# EAGLE library part MICROSD (library Ai_Connectors)
DM3AT-SF-PEJM5
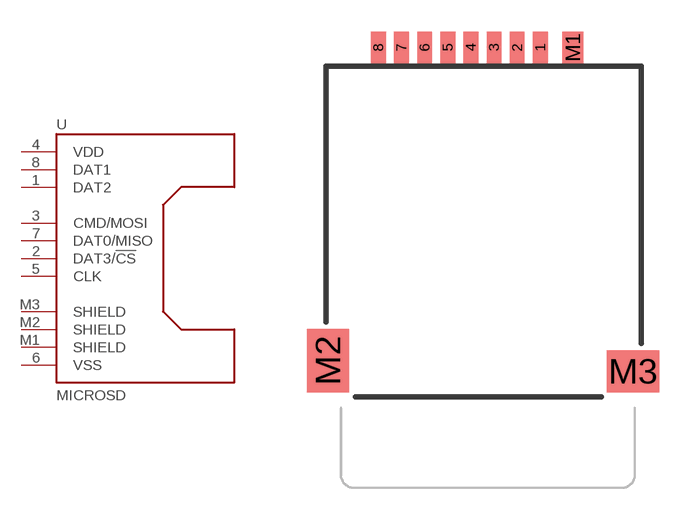
[diagram p9: symbol with the pads of MICROSD-HRS; footprint MICROSD-HRS]

Designator prefix U

## MICROSD  [MICROSD-HRS]
1  DAT2
2  DAT3/!CS
3  CMD/MOSI
4  VDD
5  CLK
6  VSS
7  DAT0/MISO
8  DAT1
M1  SHIELD
M2  SHIELD
M3  SHIELD

## Footprint MICROSD-HRS (pad centres in mm)
smd 0.7 x 1.5: 1 2.7,8.75; 2 1.6,8.75; 3 0.5,8.75; 4 -0.6,8.75; 5 -1.7,8.75; 6 -2.8,8.75; 7 -3.9,8.75; 8 -5,8.75
smd 1 x 1.5: M1 4.25,8.75
smd 2 x 3: M2 -7.4,-6.15
smd 2.5 x 2: M3 7.1,-6.65